# EAGLE library part S11059 (library 0-chirimen)
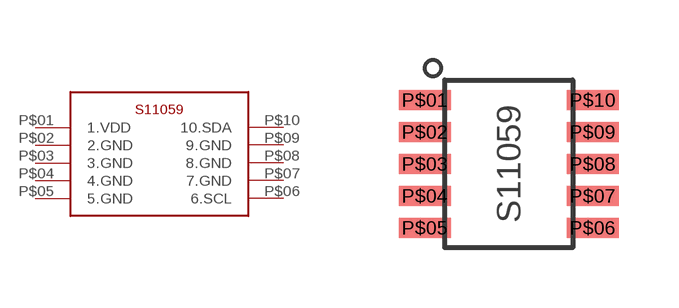
[diagram p2: symbol with the pads of S11059-2DT; footprint S11059-2DT]

Designator prefix -

## S11059  [S11059-2DT]
P$01  1.VDD
P$02  2.GND
P$03  3.GND
P$04  4.GND
P$05  5.GND
P$06  6.SCL
P$07  7.GND
P$08  8.GND
P$09  9.GND
P$10  10.SDA

## Footprint S11059-2DT (pad centres in mm)
smd 1.3 x 0.5: P$01 -0.5,3.7; P$02 -0.5,2.9; P$03 -0.5,2.1; P$04 -0.5,1.3; P$05 -0.5,0.5; P$06 3.7,0.5; P$07 3.7,1.3; P$08 3.7,2.1; P$09 3.7,2.9; P$10 3.7,3.7